# EAGLE library part HD-M512RD (library hacesoft)
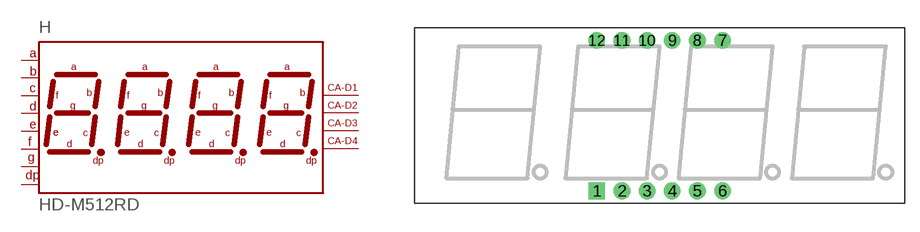
[diagram p4: symbol with the pads of HDM51X; footprint HDM51X]

Designator prefix H

## HD-M512RD  [HDM51X]
1  E  pas
2  D  pas
3  DP  pas
4  C  pas
5  G  pas
6  CA-D4  pas
7  B  pas
8  CA-D3  pas
9  CA-D2  pas
10  F  pas
11  A  pas
12  CA-D1  pas

## Footprint HDM51X (pad centres in mm)
drill 0.813 pad 1.676 square: 1 0,0
drill 0.813 pad 1.676: 2 2.54,0; 3 5.08,0; 4 7.62,0; 5 10.16,0; 6 12.7,0; 7 12.7,15.24; 8 10.16,15.24; 9 7.62,15.24; 10 5.08,15.24; 11 2.54,15.24; 12 0,15.24